# Altium schematic symbol library Switches.SchLib: 1 symbol
Pins are listed as number, name and electrical type; pins without a type are passive.

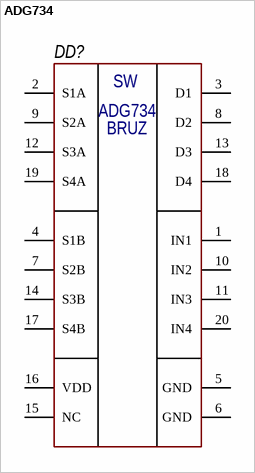
[diagram p0: symbol ADG734]

## ADG734
designator DD?  (value not drawn)
footprint TSOP65P640X120-20N (TSOP, 20-Leads, Body 6,50x4,40mm, Pitch 0,65mm, IPC Medium Density)
pins: 1 IN1, 2 S1A, 3 D1, 4 S1B, 5 GND, 6 GND, 7 S2B, 8 D2, 9 S2A, 10 IN2, 11 IN3, 12 S3A, 13 D3, 14 S3B, 15 NC, 16 VDD, 17 S4B, 18 D4, 19 S4A, 20 IN4
text: SW; BRUZ